# Altium footprint library INDUCTORS.PCBLIB: 54 footprints (part 2 of 4)
Each footprint in its own frame and in the unit in brackets; x right, y up, seen from the top. Pads: shape width x height; smd on the part's side, far side on the other; paste and mask are expansions set on the pad; w line width, h text height; cw(c..) or ccw(c..) is an arc to the next point about the centre after c.
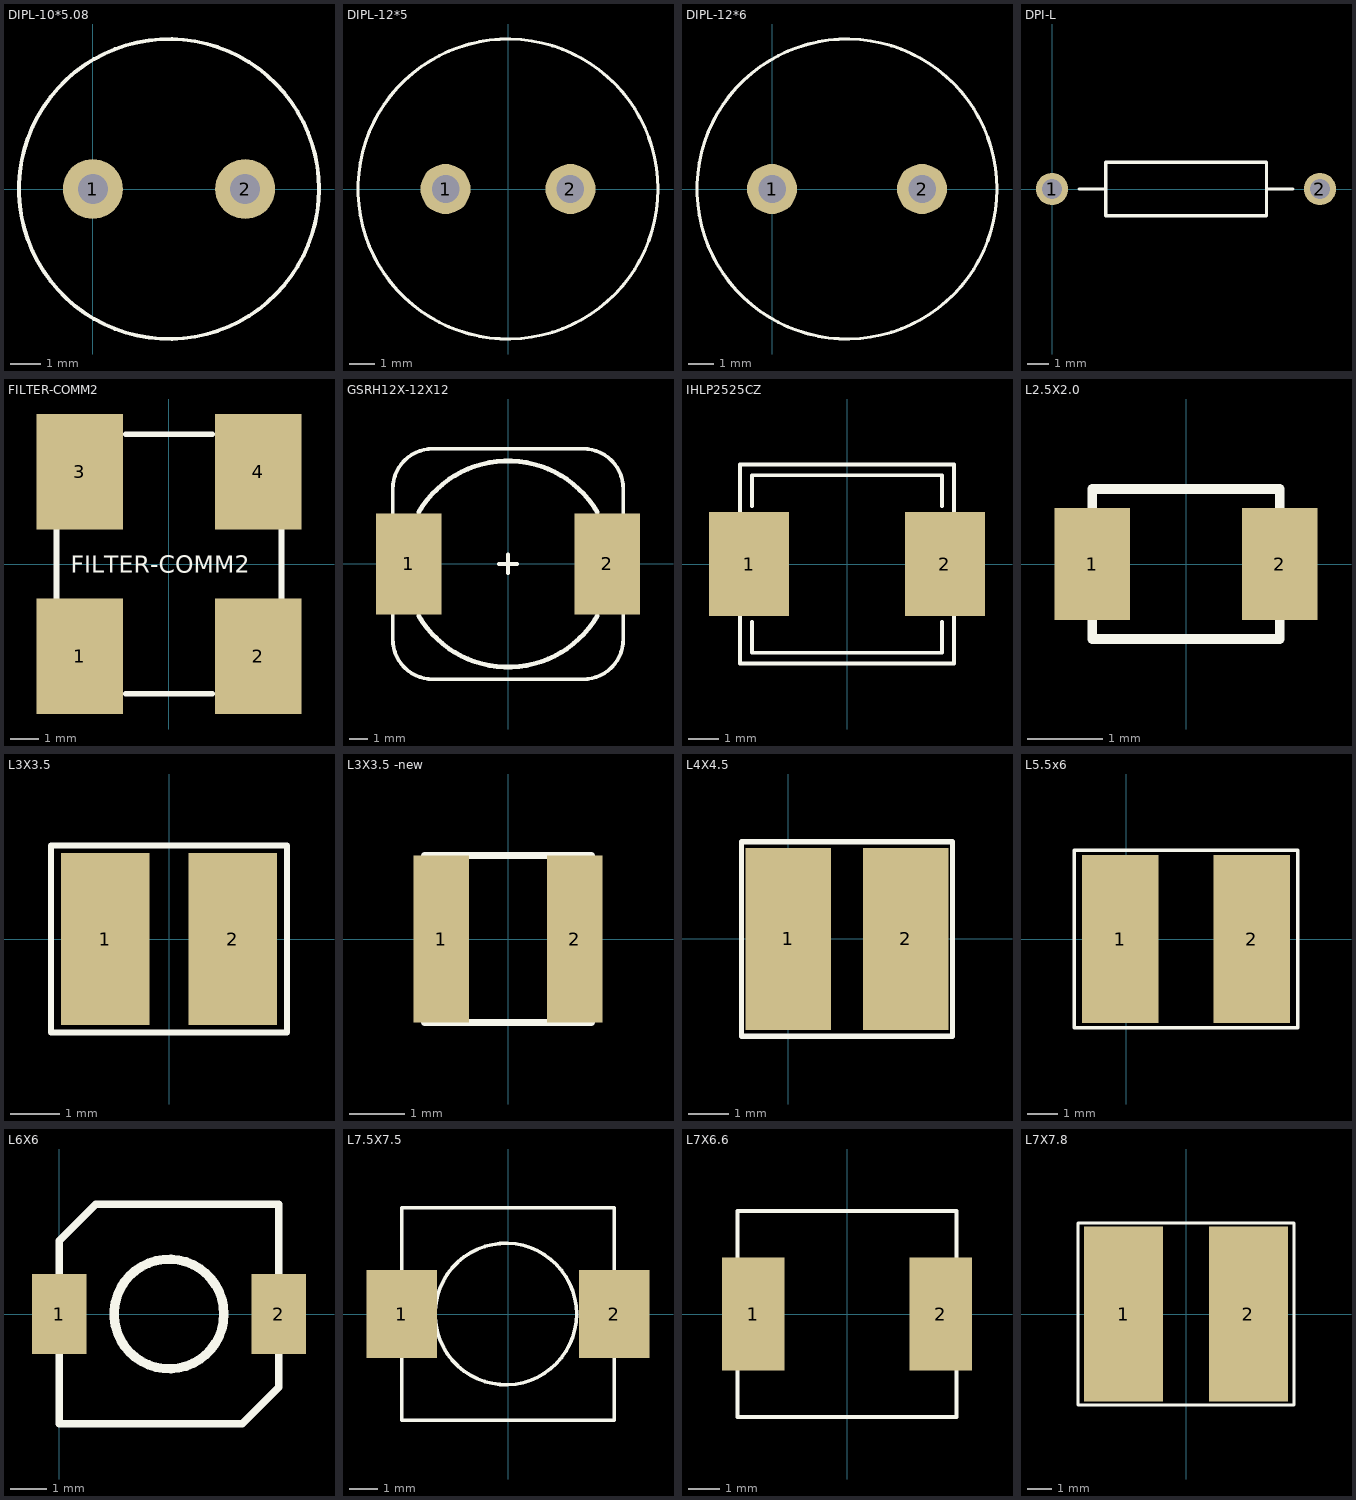
[diagram p1: the footprints below, top view; thin cyan lines are the x and y axes]

## DIPL-10*5.08 [mm]
pads (2):
  round 2 hole 1: 1(0,0) 2(5.08,0)
TopOverlay:
  circle w0.127: c2.54,0 r5

## DIPL-12*5 [mm]
pads (2):
  round 2 hole 1.1: 1(-2.5,0) 2(2.5,0)
TopOverlay:
  circle w0.127: c0,0 r6

## DIPL-12*6 [mm]
pads (2):
  round 2 hole 1.1: 1(0,0) 2(6,0)
TopOverlay:
  circle w0.127: c3,0 r6

## DPI-L [mil]
pads (2):
  round 60 hole 37: 1(0,0) 2(500,0)
TopOverlay:
  lines w6: 50,0 100,0 ; 400,0 450,0 ; 100,-50 100,50 400,50 400,-50 100,-50

## FILTER-COMM2 [mm]
pads (4):
  rect 3x4 smd: 1(-3.1,-3.2) 2(3.1,-3.2) 3(-3.1,3.2) 4(3.1,3.2)
TopOverlay:
  lines w0.2: -3.9,-2.1 -3.9,2 ; -1.5,-4.5 1.5,-4.5 ; -1.5,4.5 1.5,4.5 ; 3.9,-2.1 3.9,2.1
  text "FILTER-COMM2" at -3.4,-0.3 h0.6

## GSRH12X-12X12 [mm]
pads (2):
  rect 3.5x5.4 smd: 1(-5.3,0) 2(5.3,0)
TopOverlay:
  lines w0.2: -0.5,0 0.5,0 ; 0,-0.5 0,0.5 ; -6.15,-4 ccw(c-4,-4) -4,-6.15 4,-6.15 ccw(c4,-4) 6.15,-4 6.15,4 ccw(c4,4) 4,6.15 -4,6.15 ccw(c-4,4) -6.15,4 -6.15,-4
  lines w0.254: -4.763,-2.75 ccw(c0,0) 4.763,-2.75 ; -4.763,2.75 cw(c0,0) 4.763,2.75

## IHLP2525CZ [mm]
pads (2):
  rect 2.6x3.4 smd: 1(-3.2,0) 2(3.2,0)
TopOverlay:
  lines w0.127: -3.1,-1.9 -3.1,-2.9 3.1,-2.9 3.1,-1.9 ; -3.1,1.9 -3.1,2.9 3.1,2.9 3.1,1.9 ; -3.5,-3.25 3.5,-3.25 3.5,3.25 -3.5,3.25 -3.5,-3.25

## L2.5X2.0 [mm] "L2.5X2.0"
pads (2):
  rect 1x1.5 smd: 1(-1.25,0) 2(1.25,0)
TopOverlay:
  lines w0.127: -1.25,-1 1.25,-1 1.25,1 -1.25,1 -1.25,-1

## L3X3.5 [mm]
pads (2):
  rect 1.8x3.5 smd: 1(-1.3,0) 2(1.3,0)
TopOverlay:
  lines w0.127: -2.4,-1.9 -2.4,1.9 2.4,1.9 2.4,-1.9 -2.4,-1.9

## L3X3.5 -new [mm] "L3X3.5 -new"
pads (2):
  rect 1x3 smd: 1(-1.2,0) 2(1.2,0)
TopOverlay:
  lines w0.127: -1.5,-1.5 -1.5,1.5 1.5,1.5 1.5,-1.5 -1.5,-1.5

## L4X4.5 [mm]
pads (2):
  rect 2.1x4.5 smd: 1(0,0) 2(2.9,0)
TopOverlay:
  lines w0.127: -1.15,-2.4 -1.15,2.4 4.05,2.4 4.05,-2.4 -1.15,-2.4

## L5.5x6 [mm]
pads (2):
  rect 2.5x5.5 smd: 1(-0.2,0) 2(4.1,0)
TopOverlay:
  lines w0.127: -1.7,-2.9 -1.7,2.9 5.6,2.9 5.6,-2.9 -1.7,-2.9

## L6X6 [mm]
pads (2):
  rect 1.5x2.2 smd: 1(0,0) 2(6,0)
TopOverlay:
  circle w0.254: c3,0 r1.5
  lines w0.203: 1,3 1,3 ; 1,3 0,2 0,-3 5,-3 6,-2 6,0 6,3 1,3

## L7.5X7.5 [mm]
pads (2):
  rect 2.5x3.1 smd: 1(-3.75,0) 2(3.75,0)
TopOverlay:
  circle w0.127: c-0.076,0 r2.5
  lines w0.127: -3.75,-3.75 3.75,-3.75 3.75,3.75 -3.75,3.75 -3.75,-3.75

## L7X6.6 [mm] "L7X6.6"
pads (2):
  rect 2x3.6 smd: 1(-3,0) 2(3,0)
TopOverlay:
  lines w0.127: -3.5,-3.3 3.5,-3.3 3.5,3.3 -3.5,3.3 -3.5,-3.3

## L7X7.8 [mm]
pads (2):
  rect 3.3x7.3 smd: 1(-2.6,0) 2(2.6,0)
TopOverlay:
  lines w0.127: -4.5,-3.8 -4.5,3.8 4.5,3.8 4.5,-3.8 -4.5,-3.8